# EAGLE library part 740-106/000-004 (library con-wago_740)
Stand: 01.01.2014. Die jeweils aktuellen Daten zu diesem Artikel finden Sie in unserem Produktkatalog, den Sie unter www.wago.com einsehen können. As of: 01/01/2014. Please find the newest data for this article in our product catalogue, which can be viewed under www.wago.com.
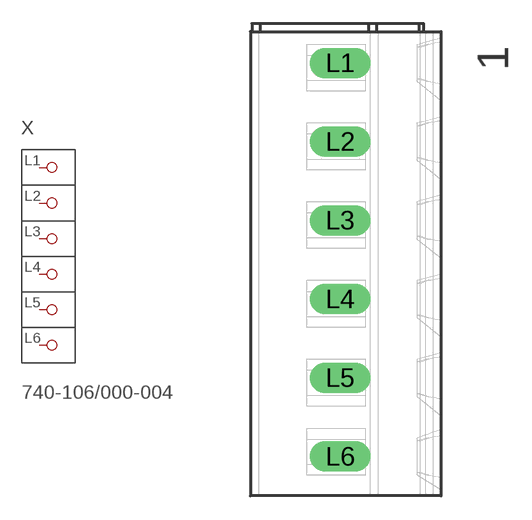
[diagram p8: symbol with the pads of P-740-106; footprint P-740-106]

Designator prefix X

## 740-106/000-004  [P-740-106]
L1  P1
L2  P2
L3  P3
L4  P4
L5  P5
L6  P6

## Footprint P-740-106 (pad centres in mm)
drill 1.3 long: L1 -0.35,12.5; L2 -0.35,7.5; L3 -0.35,2.5; L4 -0.35,-2.5; L5 -0.35,-7.5; L6 -0.35,-12.5